# EAGLE library part ADXL345 (library adxl345)
3-Axis, ±2 g/±4 g/±8 g/±16 g Digital Accelerometer
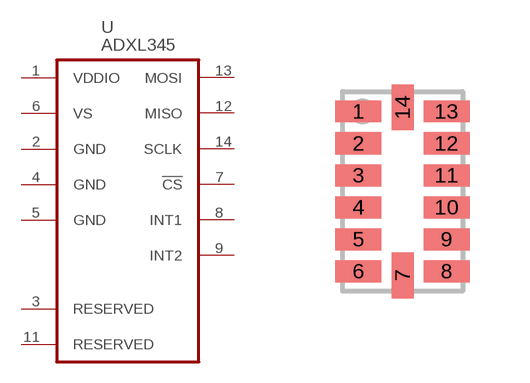
[diagram p0: symbol with the pads of LGA14; footprint LGA14]

Designator prefix -

## ADXL345  [LGA14]
1  VDDIO  pwr
2  GND  pwr
3  RESERVED
4  GND  pwr
5  GND  pwr
6  VS  pwr
7  !CS  in
8  INT1  out
9  INT2  out
10  NC  nc
11  RESERVED
12  MISO  out
13  MOSI  in
14  SCLK  in

## Footprint LGA14 (pad centres in mm)
Land Grid Array (LGA-14)
smd 1.15 x 0.55: 1 -1.1,2; 2 -1.1,1.2; 3 -1.1,0.4; 4 -1.1,-0.4; 5 -1.1,-1.2; 6 -1.1,-2; 8 1.1,-2; 9 1.1,-1.2; 10 1.1,-0.4; 11 1.1,0.4; 12 1.1,1.2; 13 1.1,2
smd 0.55 x 1.15: 7 0,-2.1; 14 0,2.1